# Altium integrated library Zarlink Video Switch.IntLib: 1 symbol
Pins are listed as number, name and electrical type; pins without a type are passive.

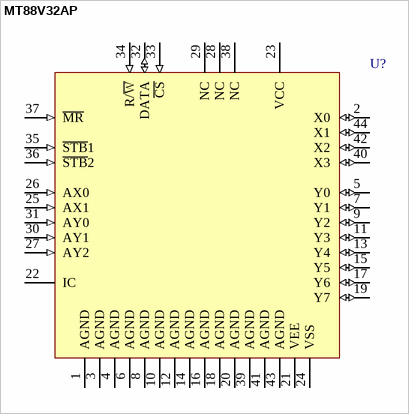
[diagram p0: symbol MT88V32AP]

## MT88V32AP
designator U?
8 X 4 High Performance Video Switch Array; Note: Pin 22 connects to VEE.; Published: 8-Jun-2000; LatestRevisionDate: 13-Apr-2006; LatestRevisionNote: IPC-7351 Footprint Added.; DatasheetVersion: Issue 1 August 1993; PackageVersion: 1997; PackageReference: PLCC44; Publisher: Altium Limited; PackageDescription: 44-Pin Leaded Chip Carrier 1.27 mm Pitch; Code_IPC: PLCC-44; ComponentLink1Description: Manufacturer Link; ComponentLink1URL: http://products.zarlink.com; ComponentLink2Description: Datasheet; ComponentLink2URL: http://assets.zarlink.com/DS/zarlink_MT88V32_AUG_93.pdf
footprint PLCC44_N (Leaded Chip Carrier, 44-Leads, Body 16.6x16.6mm, Pitch 1.27mm, IPC Medium Density)
footprint PLCC44_L (Leaded Chip Carrier, 44-Leads, Body 16.6x16.6mm, Pitch 1.27mm, IPC High Density)
footprint PLCC44_M (Leaded Chip Carrier, 44-Leads, Body 16.6x16.6mm, Pitch 1.27mm, IPC Low Density)
pins: 1 AGND (power), 2 X0 (io), 3 AGND (power), 4 AGND (power), 5 Y0 (io), 6 AGND (power), 7 Y1 (io), 8 AGND (power), 9 Y2 (io), 10 AGND (power), 11 Y3 (io), 12 AGND (power), 13 Y4 (io), 14 AGND (power), 15 Y5 (io), 16 AGND (power), 17 Y6 (io), 18 AGND (power), 19 Y7 (io), 20 AGND (power), 21 VEE (power), 22 IC, 23 VCC (power), 24 VSS (power), 25 AX1 (in), 26 AX0 (in), 27 AY2 (in), 28 NC, 29 NC, 30 AY1 (in), 31 AY0 (in), 32 DATA (io), 33 ~{CS} (in), 34 R/~{W} (in), 35 ~{STB}1 (in), 36 ~{STB}2 (in), 37 ~{MR} (in), 38 NC, 39 AGND (power), 40 X3 (io), 41 AGND (power), 42 X2 (io), 43 AGND (power), 44 X1 (io)